# Altium schematic symbol library L78L08ABZTR.SchLib: 1 symbol
Pins are listed as number, name and electrical type; pins without a type are passive.

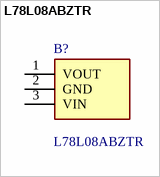
[diagram p0: symbol L78L08ABZTR]

## L78L08ABZTR
designator B?
Linear Voltage Regulator IC Positive Fixed 1 Output 100mA TO-92-3; Manufacturer_Name: STMicroelectronics; Geometry.Height: 8.2mm; Mouser Part Number: 511-L78L08ABZ-TR; Mouser Price/Stock: https://www.mouser.co.uk/ProductDetail/STMicroelectronics/L78L08ABZTR?qs=z47m7sMe7DEuCnwaonDPrg%3D%3D; Manufacturer_Part_Number: L78L08ABZTR; Datasheet Link: https://www.st.com/resource/en/datasheet/l78l.pdf
footprint L78L08ABZTR
pins: 1 VOUT, 2 GND, 3 VIN